# Altium footprint library HEADER-2X10-100mil-STRAIGHT.PcbLib: 1 footprints
Each footprint in its own frame and in the unit in brackets; x right, y up, seen from the top. Pads: shape width x height; smd on the part's side, far side on the other; paste and mask are expansions set on the pad; w line width, h text height; cw(c..) or ccw(c..) is an arc to the next point about the centre after c.
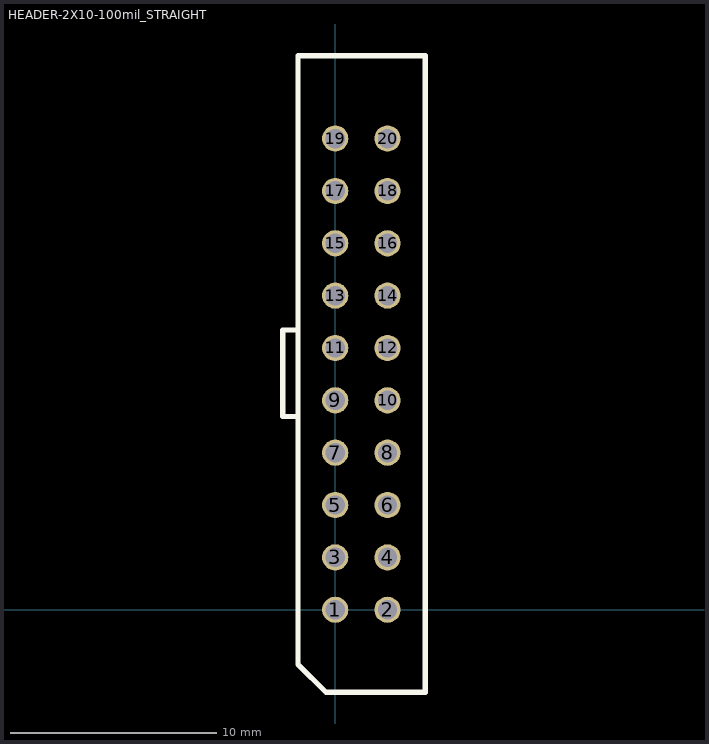
[diagram p0: the footprint, top view; thin cyan lines are the x and y axes]

## HEADER-2X10-100mil_STRAIGHT [mil]
pads (20):
  round 50 / inner round 40 / far side round 50 hole 37: 1(0,0) 2(100,0) 3(0,100) 4(100,100) 5(0,200) 6(100,200) 7(0,300) 8(100,300) 9(0,400) 10(100,400) 11(0,500) 12(100,500) 13(0,600) 14(100,600) 15(0,700) 16(100,700) 17(0,800) 18(100,800) 19(0,900) 20(100,900)
Top Overlay:
  lines w10: -70.87,369.09 -100.39,369.09 -100.39,534.45 -70.87,534.45 ; -70.87,-104.33 -70.87,1058.07 172.24,1058.07 172.24,-157.48 -17.72,-157.48 -70.87,-104.33